# Altium footprint library TMDX654GPEVM_BRD.PcbLib: 153 footprints (part 8 of 12)
Each footprint in its own frame and in the unit in brackets; x right, y up, seen from the top. Pads: shape width x height; smd on the part's side, far side on the other; paste and mask are expansions set on the pad; w line width, h text height; cw(c..) or ccw(c..) is an arc to the next point about the centre after c.
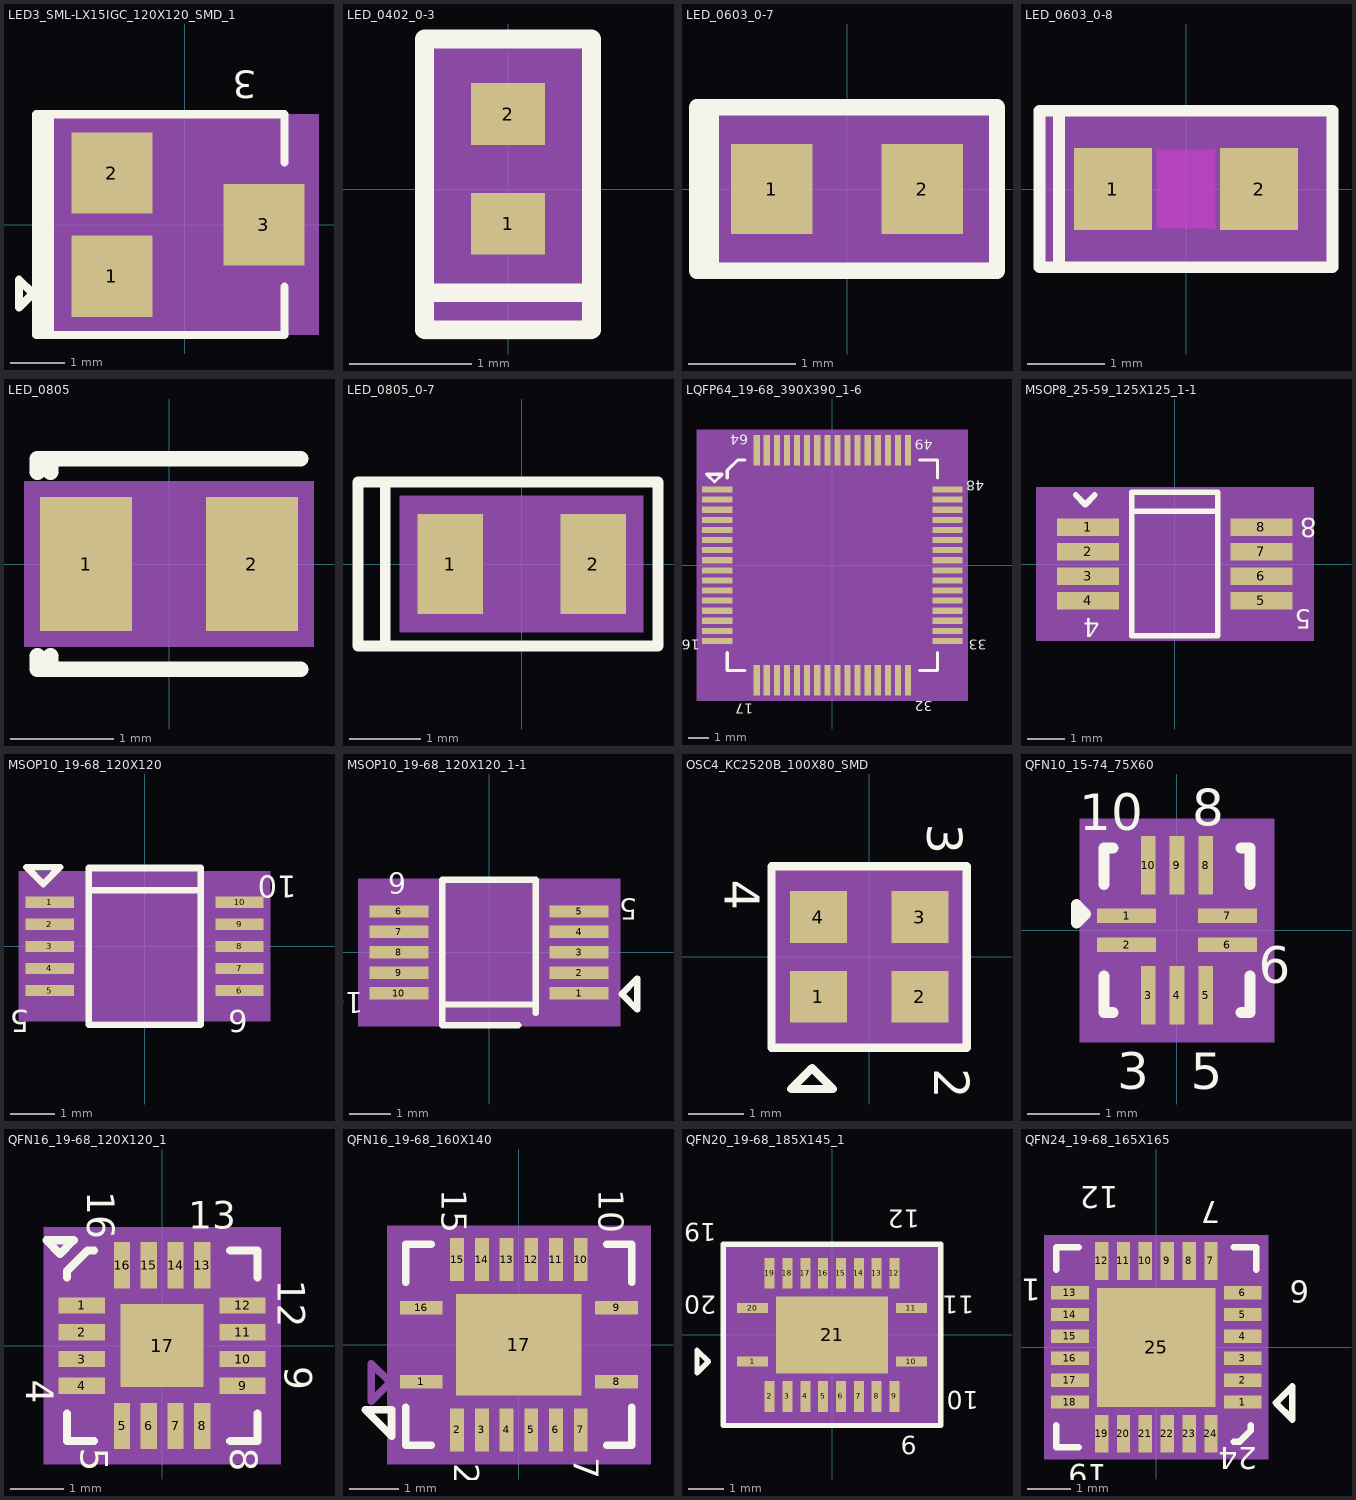
[diagram p7: the footprints below, top view; thin cyan lines are the x and y axes]

## LED3_SML-LX15IGC_120X120_SMD_1 [mil] "LED3_SML-LX15IGC_120X120_SMD_1"
pads (3):
  rect 59x59 smd: 1(-52.62,-37.4) 2(-52.62,37.4) 3(57.62,0)
Top Overlay:
  lines w6: 72.5,-45 72.5,-80 -102.5,-80 -102.5,80 -97.5,80 -97.5,-80 -107.5,-80 -107.5,80 72.5,80 72.5,45 ; -120,-60 -120,-40 -110,-50 -120,-60
  text ".Designator" at 110,46 h30
  text "3" at 52.5,111.67 h20
Top Courtyard:
  dashed: -89.12,-73.9 -89.12,73.9 94.12,73.9 94.12,-73.9
Top 3D Body:
  region: -97.5,80 -97.5,-80 97.5,-80 97.5,80
Mechanical 10:
  lines w6: -57.5,60 62.5,60 62.5,-60 -57.5,-60 -57.5,60 ; -57.5,60 -42.5,60 ; -57.5,60 -52.5,60 -52.5,-60 -47.5,-60 -47.5,60 -42.5,60 ; -42.5,60 -42.5,-60 -42.5,60 ; -72.5,-45 -72.5,-25 -62.5,-35 -72.5,-45
  text "LD18" at -8.92,47 h30
Mechanical 11:
  lines w6: -57.5,60 62.5,60 62.5,-60 -57.5,-60 -57.5,60 ; -57.5,60 -42.5,60 ; -57.5,60 -52.5,60 -52.5,-60 -47.5,-60 -47.5,60 -42.5,60 ; -42.5,60 -42.5,-60 -42.5,60 ; -72.5,-45 -72.5,-25 -62.5,-35 -72.5,-45
  text "LD18" at -8.92,47 h30
Mechanical 12:
  lines w6: -57.5,60 62.5,60 62.5,-60 -57.5,-60 -57.5,60 ; -57.5,60 -42.5,60 ; -57.5,60 -52.5,60 -52.5,-60 -47.5,-60 -47.5,60 -42.5,60 ; -42.5,60 -42.5,-60 -42.5,60 ; -72.5,-45 -72.5,-25 -62.5,-35 -72.5,-45
  text "LD18" at -8.92,47 h30
Mechanical 13:
  lines w6: -57.5,60 62.5,60 62.5,-60 -57.5,-60 -57.5,60 ; -57.5,60 -42.5,60 ; -57.5,60 -52.5,60 -52.5,-60 -47.5,-60 -47.5,60 -42.5,60 ; -42.5,60 -42.5,-60 -42.5,60 ; -72.5,-45 -72.5,-25 -62.5,-35 -72.5,-45
  text "LD18" at -8.92,47 h30
Mechanical 14:
  lines w6: -57.5,60 62.5,60 62.5,-60 -57.5,-60 -57.5,60 ; -57.5,60 -42.5,60 ; -57.5,60 -52.5,60 -52.5,-60 -47.5,-60 -47.5,60 -42.5,60 ; -42.5,60 -42.5,-60 -42.5,60 ; -72.5,-45 -72.5,-25 -62.5,-35 -72.5,-45
  text "LD18" at -8.92,47 h30
Mechanical47:
  text "3" at 61.62,0 h10
  text "1" at -48.62,-37.4 h10
  text "2" at -48.62,37.4 h10
Top Assembly:
  lines w6: -57.5,60 -52.5,60 -52.5,-60 -47.5,-60 -47.5,60 -42.5,60 ; -57.5,60 -57.5,-60 62.5,-60 62.5,60 -57.5,60 ; -57.5,60 -42.5,60 ; -42.5,60 -42.5,-60 -42.5,60 ; -72.5,-45 -72.5,-25 -62.5,-35 -72.5,-45
3D body: height 150, standoff 0, extent -97.5,-80 97.5,80

## LED_0402_0-3 [mil] "LED_0402_0-3"
pads (2):
  rect 24x20 smd: 1(0,-11.22) 2(0,24.22)
Top Overlay:
  lines w6: -25,-33.5 25,-33.5 ; -27,-45.5 27,-45.5 27,48.5 -27,48.5 -27,-45.5
  text ".Designator" at 36,-46.81 h30
Top Courtyard:
  dashed: 19.5,-28.22 -19.5,-28.22 -19.5,41.22 19.5,41.22
Top 3D Body:
  region: -27,-48.5 27,-48.5 27,48.5 -27,48.5
Mechanical 10:
  lines w6: -10,-3.5 10,-3.5 ; -12.5,-13.5 12.5,-13.5 12.5,26.5 -12.5,26.5 -12.5,-13.5
  text "LD7" at 25,42.19 h30
Mechanical 11:
  lines w6: -10,-3.5 10,-3.5 ; -12.5,-13.5 12.5,-13.5 12.5,26.5 -12.5,26.5 -12.5,-13.5
  text "LD7" at 25,42.19 h30
Mechanical 12:
  lines w6: -10,-3.5 10,-3.5 ; -12.5,-13.5 12.5,-13.5 12.5,26.5 -12.5,26.5 -12.5,-13.5
  text "LD7" at 25,42.19 h30
Mechanical 13:
  lines w6: -10,-3.5 10,-3.5 ; -12.5,-13.5 12.5,-13.5 12.5,26.5 -12.5,26.5 -12.5,-13.5
  text "LD7" at 25,42.19 h30
Mechanical 14:
  lines w6: -10,-3.5 10,-3.5 ; -12.5,-13.5 12.5,-13.5 12.5,26.5 -12.5,26.5 -12.5,-13.5
  text "LD7" at 25,42.19 h30
Mechanical47:
  text "2" at 0,28.22 h10
  text "1" at 0,-7.22 h10
Top Assembly:
  lines w6: -10,-3.5 10,-3.5 ; -12.5,-13.5 12.5,-13.5 12.5,26.5 -12.5,26.5 -12.5,-13.5
3D body: height 150, standoff 0, extent -27,-48.5 27,48.5

## LED_0603_0-7 [mil] "LED_0603_0-7"
pads (2):
  rect 30x33 smd: 1(-27.56,0) 2(27.56,0)
Top Overlay:
  lines w6: -50,30 -50,-30 -50,30 ; -50,30 55,30 55,-30 -55,-30 -55,30 -50,30
  text ".Designator" at -173.5,-10 h30
Top Courtyard:
  dashed: -48.56,-22.5 -48.56,22.5 48.56,22.5 48.56,-22.5
Top 3D Body:
  region: -55,30 -55,-30 55,-30 55,30
Mechanical 10:
  lines w6: -25,-15 -30,-15 -30,15 30,15 30,-15 -25,-15 ; -25,-15 -25,15 -20,15 -20,-15 -25,-15
  text "LD19" at -138.5,-15 h30
Mechanical 11:
  lines w6: -25,-15 -30,-15 -30,15 30,15 30,-15 -25,-15 ; -25,-15 -25,15 -20,15 -20,-15 -25,-15
  text "LD19" at -138.5,-15 h30
Mechanical 12:
  lines w6: -25,-15 -30,-15 -30,15 30,15 30,-15 -25,-15 ; -25,-15 -25,15 -20,15 -20,-15 -25,-15
  text "LD19" at -138.5,-15 h30
Mechanical 13:
  lines w6: -25,-15 -30,-15 -30,15 30,15 30,-15 -25,-15 ; -25,-15 -25,15 -20,15 -20,-15 -25,-15
  text "LD19" at -138.5,-15 h30
Mechanical 14:
  lines w6: -25,-15 -30,-15 -30,15 30,15 30,-15 -25,-15 ; -25,-15 -25,15 -20,15 -20,-15 -25,-15
  text "LD19" at -138.5,-15 h30
Mechanical47:
  text "2" at 23.56,0 h10
  text "1" at -31.56,0 h10
Top Assembly:
  lines w6: -25,-15 -30,-15 -30,15 30,15 30,-15 -25,-15 ; -25,-15 -25,15 -20,15 -20,-15 -25,-15
3D body: height 150, standoff 0, extent -55,-30 55,30

## LED_0603_0-8 [mil] "LED_0603_0-8"
pads (2):
  rect 40x42 smd: 1(-37.4,0) 2(37.4,0)
Top Layer keep-out:
  region: -15,20 -15,-20 15,-20 15,20
Top Overlay:
  lines w6: -65,-40 -65,40 ; -75,-40 75,-40 75,40 -75,40 -75,-40
  text ".Designator" at -180.84,-7.5 h30
Top Courtyard:
  dashed: -64.4,-28 -64.4,28 64.4,28 64.4,-28
Top 3D Body:
  region: -76.8,-41.3 -76.8,41.3 76.8,41.3 76.8,-41.3
Mechanical 10:
  lines w6: -27.6,-15.8 -27.6,15.8 ; -23.6,-15.8 -23.6,15.8 ; -19.7,-15.8 -19.7,15.8 ; -15.8,-15.8 -15.8,15.8 ; -11.8,-15.8 -11.8,15.8 ; -7.9,-15.8 -7.9,15.8 ; -3.9,-15.8 -3.9,15.8 ; -31.5,-15.8 -31.5,15.8 31.5,15.8 31.5,-15.8 -31.5,-15.8
  text "LD20" at -146.34,-11 h30
Mechanical 11:
  lines w6: -27.6,-15.8 -27.6,15.8 ; -23.6,-15.8 -23.6,15.8 ; -19.7,-15.8 -19.7,15.8 ; -15.8,-15.8 -15.8,15.8 ; -11.8,-15.8 -11.8,15.8 ; -7.9,-15.8 -7.9,15.8 ; -3.9,-15.8 -3.9,15.8 ; -31.5,-15.8 -31.5,15.8 31.5,15.8 31.5,-15.8 -31.5,-15.8
  text "LD20" at -146.34,-11 h30
Mechanical 12:
  lines w6: -27.6,-15.8 -27.6,15.8 ; -23.6,-15.8 -23.6,15.8 ; -19.7,-15.8 -19.7,15.8 ; -15.8,-15.8 -15.8,15.8 ; -11.8,-15.8 -11.8,15.8 ; -7.9,-15.8 -7.9,15.8 ; -3.9,-15.8 -3.9,15.8 ; -31.5,-15.8 -31.5,15.8 31.5,15.8 31.5,-15.8 -31.5,-15.8
  text "LD20" at -146.34,-11 h30
Mechanical 13:
  lines w6: -27.6,-15.8 -27.6,15.8 ; -23.6,-15.8 -23.6,15.8 ; -19.7,-15.8 -19.7,15.8 ; -15.8,-15.8 -15.8,15.8 ; -11.8,-15.8 -11.8,15.8 ; -7.9,-15.8 -7.9,15.8 ; -3.9,-15.8 -3.9,15.8 ; -31.5,-15.8 -31.5,15.8 31.5,15.8 31.5,-15.8 -31.5,-15.8
  text "LD20" at -146.34,-11 h30
Mechanical 14:
  lines w6: -27.6,-15.8 -27.6,15.8 ; -23.6,-15.8 -23.6,15.8 ; -19.7,-15.8 -19.7,15.8 ; -15.8,-15.8 -15.8,15.8 ; -11.8,-15.8 -11.8,15.8 ; -7.9,-15.8 -7.9,15.8 ; -3.9,-15.8 -3.9,15.8 ; -31.5,-15.8 -31.5,15.8 31.5,15.8 31.5,-15.8 -31.5,-15.8
  text "LD20" at -146.34,-11 h30
Mechanical47:
  text "2" at 33.4,-3.33 h10
  text "1" at -41.4,-3.33 h10
Top Assembly:
  lines w6: -27.6,-15.8 -27.6,15.8 ; -23.6,-15.8 -23.6,15.8 ; -19.7,-15.8 -19.7,15.8 ; -15.8,-15.8 -15.8,15.8 ; -11.8,-15.8 -11.8,15.8 ; -7.9,-15.8 -7.9,15.8 ; -3.9,-15.8 -3.9,15.8 ; -31.5,-15.8 -31.5,15.8 31.5,15.8 31.5,-15.8 -31.5,-15.8
Top Component Outline:
  circle w2: c0,0 r13.8
  lines w2: -19.7,0 19.7,0 ; 0,-19.7 0,19.7
  lines w7.9: 0,-11.8 0,11.8
3D body: height 150, standoff 0, extent -76.8,-41.3 76.8,41.3

## LED_0805 [mil] "LED_0805"
pads (2):
  rect 35x51 smd: 1(-31.5,0) 2(31.5,0)
Top Overlay:
  lines w6: -50,-35 -50,-40 50,-40 ; -50,35 -50,40 50,40 ; -45,-40 -45,-35 ; -45,35 -45,40
  text ".Designator" at -67.91,12.5 h30
Top Courtyard:
  dashed: -55,-31.5 -55,31.5 55,31.5 55,-31.5
Top 3D Body:
  region: -53,-29.5 53,-29.5 53,29.5 -53,29.5
Mechanical 10:
  lines w6: -35,25 40,25 40,-25 -40,-25 -40,25 -35,25 ; -35,25 -35,-25 -35,25
  text "LD1" at 32.09,67.5 h30
Mechanical 11:
  lines w6: -35,25 40,25 40,-25 -40,-25 -40,25 -35,25 ; -35,25 -35,-25 -35,25
  text "LD1" at 32.09,67.5 h30
Mechanical 12:
  lines w6: -35,25 40,25 40,-25 -40,-25 -40,25 -35,25 ; -35,25 -35,-25 -35,25
  text "LD1" at 32.09,67.5 h30
Mechanical 13:
  lines w6: -35,25 40,25 40,-25 -40,-25 -40,25 -35,25 ; -35,25 -35,-25 -35,25
  text "LD1" at 32.09,67.5 h30
Mechanical 14:
  lines w6: -35,25 40,25 40,-25 -40,-25 -40,25 -35,25 ; -35,25 -35,-25 -35,25
  text "LD1" at 32.09,67.5 h30
Mechanical47:
  text "1" at -31.5,-4 h10
  text "2" at 31.5,-4 h10
Top Assembly:
  lines w6: -35,25 -35,-25 -35,25 ; -35,25 -40,25 -40,-25 40,-25 40,25 -35,25
3D body: height 150, standoff 0, extent -53,-29.5 53,29.5

## LED_0805_0-7 [mil] "LED_0805_0-7"
pads (2):
  rect 36x55 smd: 1(-39.37,0) 2(39.37,0)
Top Overlay:
  lines w6: -75,-45 -75,45 ; -40,-45 40,-45 ; -40,45 40,45 ; -75,45 75,45 75,-45 -90,-45 -90,45 -75,45
Top Courtyard:
  dashed: -64.37,-34.5 -64.37,34.5 64.37,34.5 64.37,-34.5
Top 3D Body:
  region: -67,-37.5 -67,37.5 67,37.5 67,-37.5
Mechanical 10:
  lines w6: -30,-25 -30,25 ; -40,-25 40,-25 40,25 -40,25 -40,-25
  text "LD12" at -42,-65 h30
Mechanical 11:
  lines w6: -30,-25 -30,25 ; -40,-25 40,-25 40,25 -40,25 -40,-25
  text "LD12" at -42,-65 h30
Mechanical 12:
  lines w6: -30,-25 -30,25 ; -40,-25 40,-25 40,25 -40,25 -40,-25
  text "LD12" at -42,-65 h30
Mechanical 13:
  lines w6: -30,-25 -30,25 ; -40,-25 40,-25 40,25 -40,25 -40,-25
  text "LD12" at -42,-65 h30
Mechanical 14:
  lines w6: -30,-25 -30,25 ; -40,-25 40,-25 40,25 -40,25 -40,-25
  text "LD12" at -42,-65 h30
Mechanical47:
  text "2" at 39.37,4 h10
  text "1" at -39.37,4 h10
Top Assembly:
  lines w6: -30,-25 -30,25 ; -40,-25 40,-25 40,25 -40,25 -40,-25
  text ".Designator" at -42,-65 h30
3D body: height 150, standoff 0, extent -67,-37.5 67,37.5

## LQFP64_19-68_390X390_1-6 [mil] "LQFP64_19-68_390X390_1-6"
pads (64):
  rect 59x12 smd: 1(-224.41,147.64) 2(-224.41,127.95) 3(-224.41,108.27) 4(-224.41,88.58) 5(-224.41,68.9) 6(-224.41,49.21) 7(-224.41,29.53) 8(-224.41,9.84) 9(-224.41,-9.84) 10(-224.41,-29.53) 11(-224.41,-49.21) 12(-224.41,-68.9) 13(-224.41,-88.58) 14(-224.41,-108.27) 15(-224.41,-127.95) 16(-224.41,-147.64) 33(224.41,-147.64) 34(224.41,-127.95) 35(224.41,-108.27) 36(224.41,-88.58) 37(224.41,-68.9) 38(224.41,-49.21) 39(224.41,-29.53) 40(224.41,-9.84) 41(224.41,9.84) 42(224.41,29.53) 43(224.41,49.21) 44(224.41,68.9) 45(224.41,88.58) 46(224.41,108.27) 47(224.41,127.95) 48(224.41,147.64)
  rect 12x59 smd: 17(-147.64,-224.41) 18(-127.95,-224.41) 19(-108.27,-224.41) 20(-88.58,-224.41) 21(-68.9,-224.41) 22(-49.21,-224.41) 23(-29.53,-224.41) 24(-9.84,-224.41) 25(9.84,-224.41) 26(29.53,-224.41) 27(49.21,-224.41) 28(68.9,-224.41) 29(88.58,-224.41) 30(108.27,-224.41) 31(127.95,-224.41) 32(147.64,-224.41) 49(147.64,224.41) 50(127.95,224.41) 51(108.27,224.41) 52(88.58,224.41) 53(68.9,224.41) 54(49.21,224.41) 55(29.53,224.41) 56(9.84,224.41) 57(-9.84,224.41) 58(-29.53,224.41) 59(-49.21,224.41) 60(-68.9,224.41) 61(-88.58,224.41) 62(-108.27,224.41) 63(-127.95,224.41) 64(-147.64,224.41)
Top Overlay:
  lines w6: -205,-170 -205,-205 -170,-205 ; -205,170 -205,185 -185,205 -170,205 ; 170,-205 205,-205 205,-170 ; 170,205 205,205 205,170 ; -245,177.5 -215,177.5 -230,162.5 -245,177.5
  text ".Designator" at 49,-290 h30
  text "64" at -164,255 h20
  text "49" at 196,245 h20
  text "48" at 296,165 h20
  text "33" at 301,-145 h20
  text "32" at 196,-265 h20
  text "17" at -154,-270 h20
  text "16" at -259,-145 h20
Top Courtyard:
  dashed: -259.91,-259.91 -259.91,259.91 259.91,259.91 259.91,-259.91
Top 3D Body:
  region: -264,-264 -264,264 264,264 264,-264
Mechanical 15:
  lines w6: -210,135 -210,165 -195,150 -210,135 ; -195,-195 195,-195 195,195 -195,195 -195,-195
  text "U73" at 39,25 h30
Mechanical 16:
  lines w6: -210,135 -210,165 -195,150 -210,135 ; -195,-195 195,-195 195,195 -195,195 -195,-195
  text "U73" at 39,25 h30
Mechanical 17:
  lines w6: -210,135 -210,165 -195,150 -210,135 ; -195,-195 195,-195 195,195 -195,195 -195,-195
  text "U73" at 39,25 h30
Mechanical 18:
  lines w6: -210,135 -210,165 -195,150 -210,135 ; -195,-195 195,-195 195,195 -195,195 -195,-195
  text "U73" at 39,25 h30
Mechanical 19:
  lines w6: -210,135 -210,165 -195,150 -210,135 ; -195,-195 195,-195 195,195 -195,195 -195,-195
  text "U73" at 39,25 h30
Mechanical47:
  text "2" at -228.41,122.95 h10
  text "3" at -228.41,103.27 h10
  text "1" at -228.41,142.64 h10
  text "5" at -228.41,63.9 h10
  text "51" at 96.93,221.08 h10
  text "47" at 216.41,122.95 h10
  text "10" at -232.41,-34.53 h10
  text "11" at -232.41,-54.21 h10
  text "13" at -232.41,-93.58 h10
  text "15" at -232.41,-132.95 h10
  text "25" at -1.49,-227.74 h10
  text "35" at 216.41,-113.27 h10
  text "28" at 57.56,-227.74 h10
  text "26" at 18.19,-227.74 h10
  text "29" at 77.25,-227.74 h10
  text "27" at 37.88,-227.74 h10
  text "40" at 216.41,-14.84 h10
  text "38" at 216.41,-54.21 h10
  text "41" at 216.41,4.84 h10
  text "63" at -139.29,221.08 h10
  text "39" at 216.41,-34.53 h10
  text "62" at -119.6,221.08 h10
  text "4" at -228.41,83.58 h10
  text "20" at -99.92,-227.74 h10
  text "31" at 116.62,-227.74 h10
  text "42" at 216.41,24.53 h10
  text "56" at -1.49,221.08 h10
  text "50" at 116.62,221.08 h10
  text "8" at -228.41,4.84 h10
  text "18" at -139.29,-227.74 h10
  text "53" at 57.56,221.08 h10
  text "16" at -232.41,-152.64 h10
  text "7" at -228.41,24.53 h10
  text "48" at 216.41,142.64 h10
  text "19" at -119.6,-227.74 h10
  text "54" at 37.88,221.08 h10
  text "52" at 77.25,221.08 h10
  text "17" at -158.97,-227.74 h10
  text "61" at -99.92,221.08 h10
  text "60" at -80.23,221.08 h10
  text "12" at -232.41,-73.9 h10
  text "49" at 136.3,221.08 h10
  text "37" at 216.41,-73.9 h10
  text "64" at -158.97,221.08 h10
  text "9" at -228.41,-14.84 h10
  text "6" at -228.41,44.21 h10
  text "14" at -232.41,-113.27 h10
  text "36" at 216.41,-93.58 h10
  text "59" at -60.55,221.08 h10
  text "58" at -40.86,221.08 h10
  text "57" at -21.18,221.08 h10
  text "55" at 18.19,221.08 h10
  text "46" at 216.41,103.27 h10
  text "45" at 216.41,83.58 h10
  text "44" at 216.41,63.9 h10
  text "43" at 216.41,44.21 h10
  text "34" at 216.41,-132.95 h10
  text "33" at 216.41,-152.64 h10
  text "32" at 136.3,-227.74 h10
  text "30" at 96.93,-227.74 h10
  text "24" at -21.18,-227.74 h10
  text "23" at -40.86,-227.74 h10
  text "22" at -60.55,-227.74 h10
  text "21" at -80.23,-227.74 h10
Top Assembly:
  lines w6: -210,135 -210,165 -195,150 -210,135 ; -195,-195 195,-195 195,195 -195,195 -195,-195
3D body: height 150, standoff 0, extent -264,-264 264,264

## MSOP8_25-59_125X125_1-1 [mil] "MSOP8_25-59_125X125_1-1"
pads (8):
  rect 65x18 smd: 1(-90.55,38.39) 2(-90.55,12.8) 3(-90.55,-12.8) 4(-90.55,-38.39) 5(90.55,-38.39) 6(90.55,-12.8) 7(90.55,12.8) 8(90.55,38.39)
Top Overlay:
  lines w6: -103.5,72 -93.5,62 -83.5,72 ; -45,55 45,55 ; -45,-75 45,-75 45,75 -45,75 -45,-75
  text ".Designator" at 31.5,114 h30
  text "4" at -78.5,-56.83 h20
  text "5" at 142.5,-48 h20
  text "8" at 148.5,48 h20
Top Courtyard:
  dashed: -129.05,-72 -129.05,72 129.05,72 129.05,-72
Top 3D Body:
  region: -145,-80 145,-80 145,80 -145,80
Mechanical 15:
  lines w6: -65,45 65,45 ; -80,30 -80,50 -70,40 -80,30 ; -65,-65 65,-65 65,65 -65,65 -65,-65
  text "U79" at -29,5 h30
Mechanical 16:
  lines w6: -65,45 65,45 ; -80,30 -80,50 -70,40 -80,30 ; -65,-65 65,-65 65,65 -65,65 -65,-65
  text "U79" at -29,5 h30
Mechanical 17:
  lines w6: -65,45 65,45 ; -80,30 -80,50 -70,40 -80,30 ; -65,-65 65,-65 65,65 -65,65 -65,-65
  text "U79" at -29,5 h30
Mechanical 18:
  lines w6: -65,45 65,45 ; -80,30 -80,50 -70,40 -80,30 ; -65,-65 65,-65 65,65 -65,65 -65,-65
  text "U79" at -29,5 h30
Mechanical 19:
  lines w6: -65,45 65,45 ; -80,30 -80,50 -70,40 -80,30 ; -65,-65 65,-65 65,65 -65,65 -65,-65
  text "U79" at -29,5 h30
Mechanical47:
  text "5" at 84.22,-41.16 h10
  text "4" at -94.8,-42.06 h10
  text "1" at -94.8,34.71 h10
  text "2" at -94.8,9.12 h10
  text "8" at 84.22,35.61 h10
  text "3" at -94.8,-16.47 h10
  text "7" at 84.22,10.02 h10
  text "6" at 84.22,-15.57 h10
Top Assembly:
  lines w6: -65,45 65,45 ; -80,30 -80,50 -70,40 -80,30 ; -65,-65 65,-65 65,65 -65,65 -65,-65
3D body: height 150, standoff 0, extent -145,-80 145,80

## MSOP10_19-68_120X120 [mil] "MSOP10_19-68_120X120"
pads (10):
  rect 43x10 smd: 1(-84.65,39.37) 2(-84.65,19.68) 3(-84.65,0) 4(-84.65,-19.68) 5(-84.65,-39.37) 6(84.65,-39.37) 7(84.65,-19.68) 8(84.65,0) 9(84.65,19.68) 10(84.65,39.37)
Top Overlay:
  lines w6: -50,50 50,50 ; -105.5,70.65 -90.5,55.65 -75.5,70.65 -100.5,70.65 -105.5,70.65 ; -50,-70 -50,70 50,70 50,-70 -50,-70
  text "5" at -103,-56.85 h20
  text "10" at 135.5,63.15 h20
  text ".Designator" at 23.5,123.15 h30
  text "6" at 92,-56.85 h20
Top Courtyard:
  dashed: -112.15,-67 -112.15,67 112.15,67 112.15,-67
Top 3D Body:
  region: -110,-67 110,-67 110,67 -110,67
Mechanical 15:
  lines w6: -60,40 60,40 ; -77.5,25 -62.5,40 -77.5,55 -77.5,30 -77.5,25 ; -60,-60 60,-60 60,60 -60,60 -60,-60
  text "U66" at 38.5,8.15 h30
Mechanical 16:
  lines w6: -60,40 60,40 ; -77.5,25 -62.5,40 -77.5,55 -77.5,30 -77.5,25 ; -60,-60 60,-60 60,60 -60,60 -60,-60
  text "U66" at 38.5,8.15 h30
Mechanical 17:
  lines w6: -60,40 60,40 ; -77.5,25 -62.5,40 -77.5,55 -77.5,30 -77.5,25 ; -60,-60 60,-60 60,60 -60,60 -60,-60
  text "U66" at 38.5,8.15 h30
Mechanical 18:
  lines w6: -60,40 60,40 ; -77.5,25 -62.5,40 -77.5,55 -77.5,30 -77.5,25 ; -60,-60 60,-60 60,60 -60,60 -60,-60
  text "U66" at 38.5,8.15 h30
Mechanical 19:
  lines w6: -60,40 60,40 ; -77.5,25 -62.5,40 -77.5,55 -77.5,30 -77.5,25 ; -60,-60 60,-60 60,60 -60,60 -60,-60
  text "U66" at 38.5,8.15 h30
Mechanical47:
  text "5" at -88.65,-44.37 h10
  text "6" at 80.65,-44.37 h10
  text "10" at 76.65,34.37 h10
  text "3" at -88.65,-5 h10
  text "9" at 80.65,14.69 h10
  text "7" at 80.65,-24.68 h10
  text "2" at -88.65,14.69 h10
  text "1" at -88.65,34.37 h10
  text "8" at 80.65,-5 h10
  text "4" at -88.65,-24.68 h10
Top Assembly:
  lines w6: -60,40 60,40 ; -77.5,25 -62.5,40 -77.5,55 -77.5,30 -77.5,25 ; -60,-60 60,-60 60,60 -60,60 -60,-60
3D body: height 150, standoff 0, extent -110,-67 110,67

## MSOP10_19-68_120X120_1-1 [mil] "MSOP10_19-68_120X120_1-1"
pads (10):
  rect 57x12 smd: 1(86.61,-39.37) 2(86.61,-19.68) 3(86.61,0) 4(86.61,19.68) 5(86.61,39.37) 6(-86.61,39.37) 7(-86.61,19.68) 8(-86.61,0) 9(-86.61,-19.68) 10(-86.61,-39.37)
Top Overlay:
  lines w6: -45,-50 45,-50 ; 28.13,-70 -45,-70 -45,70 45,70 45,-58.17 ; 127.5,-40 142.5,-25 142.5,-55 127.5,-40
  text "6" at -79.37,76.83 h20
  text "10" at -120.87,-38.17 h20
  text "5" at 142.5,51.67 h20
Top Courtyard:
  dashed: 121.11,67 121.11,-67 -121.11,-67 -121.11,67
Top 3D Body:
  region: 126,71 126,-71 -126,-71 -126,71
Mechanical 15:
  lines w6: -60,-40 60,-40 ; -60,-60 -60,60 60,60 60,-60 -60,-60 ; 62.5,-40 77.5,-25 77.5,-55 62.5,-40
  text "U69" at 27.13,31.83 h30
Mechanical 16:
  lines w6: -60,-40 60,-40 ; -60,-60 -60,60 60,60 60,-60 -60,-60 ; 62.5,-40 77.5,-25 77.5,-55 62.5,-40
  text "U69" at 27.13,31.83 h30
Mechanical 17:
  lines w6: -60,-40 60,-40 ; -60,-60 -60,60 60,60 60,-60 -60,-60 ; 62.5,-40 77.5,-25 77.5,-55 62.5,-40
  text "U69" at 27.13,31.83 h30
Mechanical 18:
  lines w6: -60,-40 60,-40 ; -60,-60 -60,60 60,60 60,-60 -60,-60 ; 62.5,-40 77.5,-25 77.5,-55 62.5,-40
  text "U69" at 27.13,31.83 h30
Mechanical 19:
  lines w6: -60,-40 60,-40 ; -60,-60 -60,60 60,60 60,-60 -60,-60 ; 62.5,-40 77.5,-25 77.5,-55 62.5,-40
  text "U69" at 27.13,31.83 h30
Mechanical47:
  text "10" at -94.61,-34.37 h10
  text "6" at -90.61,44.37 h10
  text "1" at 82.61,-34.37 h10
  text "3" at 82.61,5 h10
  text "8" at -90.61,5 h10
  text "9" at -90.61,-14.69 h10
  text "4" at 82.61,24.68 h10
  text "7" at -90.61,24.68 h10
  text "2" at 82.61,-14.69 h10
  text "5" at 82.61,44.37 h10
Top Assembly:
  lines w6: -60,-40 60,-40 ; -60,-60 -60,60 60,60 60,-60 -60,-60 ; 62.5,-40 77.5,-25 77.5,-55 62.5,-40
  text ".Designator" at 27.13,31.83 h30
3D body: height 150, standoff 0, extent -126,-71 126,71

## OSC4_KC2520B_100X80_SMD [mil] "OSC4_KC2520B_100X80_SMD"
pads (4):
  rect 41x37 smd: 1(-36.44,-28.54) 2(36.4,-28.54) 3(36.4,28.54) 4(-36.44,28.54)
Top Overlay:
  lines w6: -70.02,-65 69.98,-65 69.98,65 -70.02,65 -70.02,-65 ; -55.92,-94.68 -25.92,-94.68 -40.92,-79.68 -55.92,-94.68
  text ".Designator" at -0.92,-81.18 h30
  text "2" at 46.58,-79.68 h25
  text "3" at 41.58,95.32 h25
  text "4" at -103.42,55.32 h25
Top Courtyard:
  dashed: -63.94,-54.04 -63.94,54.04 63.9,54.04 63.9,-54.04
Top 3D Body:
  region: -70,65 70,65 70,-65 -70,-65
Mechanical47:
  text "2" at 36.4,-32.54 h10
  text "4" at -36.44,24.54 h10
  text "1" at -36.44,-32.54 h10
  text "3" at 36.4,24.54 h10
Top Assembly:
  lines w6: -65.02,-40 -65.02,-10 -50.02,-25 -65.02,-40 ; -50.02,-40 49.98,-40 49.98,40 -50.02,40 -50.02,-40
3D body: height 150, standoff 0, extent -70,-65 70,65

## QFN10_15-74_75X60 [mil] "QFN10_15-74_75X60"
pads (10):
  rect 32x8 smd: 1(-27.56,7.87) 2(-27.56,-7.87) 6(27.56,-7.87) 7(27.56,7.87)
  rect 8x32 smd: 3(-15.75,-35.43) 4(0,-35.43) 5(15.75,-35.43) 8(15.75,35.43) 9(0,35.43) 10(-15.75,35.43)
Top Overlay:
  lines w6: -40,-25 -40,-45 -35,-45 ; -40,25 -40,45 -35,45 ; 35,-45 40,-45 40,-25 ; 35,45 40,45 40,25 ; -54.86,3.97 -54.86,13.97 -49.86,8.97 -54.86,3.97
  text ".Designator" at -129,25 h30
  text "3" at -32.5,-86.67 h20
  text "5" at 7.5,-86.67 h20
  text "6" at 44.7,-28.9 h20
  text "8" at 8.28,57.18 h20
  text "10" at -53.46,54.7 h20
Top Courtyard:
  dashed: -49.56,-57.43 -49.56,57.43 49.56,57.43 49.56,-57.43
Top 3D Body:
  region: -53,-61 -53,61 53,61 53,-61
Mechanical 10:
  lines w6: -40,5 -40,15 -35,10 -40,5 ; -30,-35 30,-35 30,35 -30,35 -30,-35
  text "U29" at -109,20 h30
Mechanical 11:
  lines w6: -40,5 -40,15 -35,10 -40,5 ; -30,-35 30,-35 30,35 -30,35 -30,-35
  text "U29" at -109,20 h30
Mechanical 12:
  lines w6: -40,5 -40,15 -35,10 -40,5 ; -30,-35 30,-35 30,35 -30,35 -30,-35
  text "U29" at -109,20 h30
Mechanical 13:
  lines w6: -40,5 -40,15 -35,10 -40,5 ; -30,-35 30,-35 30,35 -30,35 -30,-35
  text "U29" at -109,20 h30
Mechanical 14:
  lines w6: -40,5 -40,15 -35,10 -40,5 ; -30,-35 30,-35 30,35 -30,35 -30,-35
  text "U29" at -109,20 h30
Mechanical47:
  text "6" at 23.56,-11.21 h10
  text "8" at 11.75,32.1 h10
  text "5" at 11.75,-38.77 h10
  text "3" at -19.75,-38.77 h10
  text "7" at 23.56,4.54 h10
  text "1" at -31.56,7.87 h10
  text "10" at -23.75,32.1 h10
  text "2" at -31.56,-7.87 h10
  text "4" at -4,-38.77 h10
  text "9" at -4,32.1 h10
Top Assembly:
  lines w6: -40,5 -40,15 -35,10 -40,5 ; -30,-35 30,-35 30,35 -30,35 -30,-35
3D body: height 150, standoff 0, extent -53,-61 53,61

## QFN16_19-68_120X120_1 [mil] "QFN16_19-68_120X120_1"
pads (17):
  rect 34x12 smd: 1(-59.05,29.53) 2(-59.05,9.84) 3(-59.05,-9.84) 4(-59.05,-29.53) 9(59.05,-29.53) 10(59.05,-9.84) 11(59.05,9.84) 12(59.05,29.53)
  rect 12x34 smd: 5(-29.53,-59.05) 6(-9.84,-59.05) 7(9.84,-59.05) 8(29.53,-59.05) 13(29.53,59.05) 14(9.84,59.05) 15(-9.84,59.05) 16(-29.53,59.05)
  rect 61x61 smd: 17(0,0)
Top Overlay:
  lines w6: -70,-50 -70,-70 -50,-70 ; -70,50 -70,55 -55,70 -50,70 ; 50,-70 70,-70 70,-50 ; 50,70 70,70 70,50 ; -84.98,77.5 -64.98,77.5 -74.98,67.5 -84.98,77.5
  text ".Designator" at -79.98,181.5 h30
  text "16" at -54.98,113.5 h20
  text "12" at 85.02,48.5 h20
  text "8" at 50.02,-75 h20
  text "5" at -59.98,-75 h20
  text "4" at -99.98,-25 h20
  text "13" at 19.02,85.83 h20
  text "9" at 90.02,-15 h20
Top Courtyard:
  dashed: -82.06,-82.06 -82.06,82.06 82.06,82.06 82.06,-82.06
Top 3D Body:
  region: -87,-87 87,-87 87,87 -87,87
Mechanical 15:
  lines w6: -70,20 -70,40 -60,30 -70,20 ; -60,-60 60,-60 60,60 -60,60 -60,-60
  text "U64" at -9.98,-38.5 h30
Mechanical 16:
  lines w6: -70,20 -70,40 -60,30 -70,20 ; -60,-60 60,-60 60,60 -60,60 -60,-60
  text "U64" at -9.98,-38.5 h30
Mechanical 17:
  lines w6: -70,20 -70,40 -60,30 -70,20 ; -60,-60 60,-60 60,60 -60,60 -60,-60
  text "U64" at -9.98,-38.5 h30
Mechanical 18:
  lines w6: -70,20 -70,40 -60,30 -70,20 ; -60,-60 60,-60 60,60 -60,60 -60,-60
  text "U64" at -9.98,-38.5 h30
Mechanical 19:
  lines w6: -70,20 -70,40 -60,30 -70,20 ; -60,-60 60,-60 60,60 -60,60 -60,-60
  text "U64" at -9.98,-38.5 h30
Mechanical47:
  text "9" at 59.05,-33.53 h10
  text "3" at -59.05,-13.84 h10
  text "10" at 59.05,-17.84 h10
  text "13" at 29.53,51.05 h10
  text "12" at 59.05,21.53 h10
  text "11" at 59.05,1.84 h10
  text "15" at -9.84,51.05 h10
  text "14" at 9.84,51.05 h10
  text "6" at -9.84,-63.05 h10
  text "17" at 0,-8 h10
  text "5" at -29.53,-63.05 h10
  text "2" at -59.05,5.84 h10
  text "1" at -59.05,25.53 h10
  text "4" at -59.05,-33.53 h10
  text "8" at 29.53,-63.05 h10
  text "7" at 9.84,-63.05 h10
  text "16" at -29.53,51.05 h10
Top Assembly:
  lines w6: -70,20 -70,40 -60,30 -70,20 ; -60,-60 60,-60 60,60 -60,60 -60,-60
3D body: height 150, standoff 0, extent -87,-87 87,87

## QFN16_19-68_160X140 [mil] "QFN16_19-68_160X140"
pads (17):
  rect 34x11 smd: 1(-77.76,-29.53) 8(77.76,-29.53) 9(77.76,29.53) 16(-77.76,29.53)
  rect 11x34 smd: 2(-49.21,-67.91) 3(-29.53,-67.91) 4(-9.84,-67.91) 5(9.84,-67.91) 6(29.53,-67.91) 7(49.21,-67.91) 10(49.21,67.91) 11(29.53,67.91) 12(9.84,67.91) 13(-9.84,67.91) 14(-29.53,67.91) 15(-49.21,67.91)
  rect 100x81 smd: 17(0,0)
Top Overlay:
  lines w6: -90,-50 -90,-80 -70,-80 ; -90,50 -90,80 -70,80 ; 70,-80 90,-80 90,-50 ; 70,80 90,80 90,50 ; -122.41,-51.7 -101.2,-72.91 -101.2,-51.7 -122.41,-51.7
  text "7" at 43.5,-89.5 h20
  text "2" at -51.5,-94.5 h20
  text "10" at 63.5,124 h20
  text "15" at -61.5,124 h20
Top Paste:
  dashed: -48.03,5.91 -48.03,38.19 -5.91,38.19 -5.91,5.91
  dashed: 5.91,5.91 5.91,38.19 48.03,38.19 48.03,5.91
  dashed: 5.91,-38.19 5.91,-5.91 48.03,-5.91 48.03,-38.19
  dashed: -48.03,-38.19 -48.03,-5.91 -5.91,-5.91 -5.91,-38.19
Top Courtyard:
  dashed: -100.76,-90.91 -100.76,90.91 100.76,90.91 100.76,-90.91
Top 3D Body:
  region: 105,95 105,-95 -105,-95 -105,95
Mechanical 10:
  lines w6: -117.5,-45 -117.5,-15 -102.5,-30 -117.5,-45 ; -80,-70 80,-70 80,70 -80,70 -80,-70
  text "U43" at -16.5,42 h30
Mechanical 11:
  lines w6: -117.5,-45 -117.5,-15 -102.5,-30 -117.5,-45 ; -80,-70 80,-70 80,70 -80,70 -80,-70
  text "U43" at -16.5,42 h30
Mechanical 12:
  lines w6: -117.5,-45 -117.5,-15 -102.5,-30 -117.5,-45 ; -80,-70 80,-70 80,70 -80,70 -80,-70
  text "U43" at -16.5,42 h30
Mechanical 13:
  lines w6: -117.5,-45 -117.5,-15 -102.5,-30 -117.5,-45 ; -80,-70 80,-70 80,70 -80,70 -80,-70
  text "U43" at -16.5,42 h30
Mechanical 14:
  lines w6: -117.5,-45 -117.5,-15 -102.5,-30 -117.5,-45 ; -80,-70 80,-70 80,70 -80,70 -80,-70
  text "U43" at -16.5,42 h30
Mechanical47:
  text "1" at -77.76,-25.53 h10
  text "16" at -77.76,37.53 h10
  text "6" at 29.53,-63.91 h10
  text "7" at 49.21,-63.91 h10
  text "8" at 77.76,-25.53 h10
  text "9" at 77.76,33.53 h10
  text "17" at 0,8 h10
  text "11" at 29.53,75.91 h10
  text "12" at 9.84,75.91 h10
  text "10" at 49.21,75.91 h10
  text "14" at -29.53,75.91 h10
  text "15" at -49.21,75.91 h10
  text "13" at -9.84,75.91 h10
  text "5" at 9.84,-63.91 h10
  text "3" at -29.53,-63.91 h10
  text "2" at -49.21,-63.91 h10
  text "4" at -9.84,-63.91 h10
Top Assembly:
  lines w6: -117.5,-45 -117.5,-15 -102.5,-30 -117.5,-45 ; -80,-70 80,-70 80,70 -80,70 -80,-70
  text ".Designator" at -16.5,42 h30
3D body: height 150, standoff 0, extent -105,-95 105,95

## QFN20_19-68_185X145_1 [mil] "QFN20_19-68_185X145_1"
pads (21):
  rect 34x11 smd: 1(-87.6,-29.53) 10(87.6,-29.53) 11(87.6,29.53) 20(-87.6,29.53)
  rect 11x34 smd: 2(-68.9,-67.91) 3(-49.21,-67.91) 4(-29.53,-67.91) 5(-9.84,-67.91) 6(9.84,-67.91) 7(29.53,-67.91) 8(49.21,-67.91) 9(68.9,-67.91) 12(68.9,67.91) 13(49.21,67.91) 14(29.53,67.91) 15(9.84,67.91) 16(-9.84,67.91) 17(-29.53,67.91) 18(-49.21,67.91) 19(-68.9,67.91)
  rect 124x85 smd: 21(0,0)
Top Overlay:
  lines w6: -149,-42 -149,-17 -136.5,-29.5 -149,-42 ; -120,-100 -120,100 120,100 120,-100 -120,-100
  text ".Designator" at -173,3 h30
  text "9" at 93.5,-112 h20
  text "10" at 162,-62 h20
  text "12" at 97,138 h20
  text "19" at -128,123 h20
  text "20" at -128,43 h20
  text "11" at 157,43 h20
Top Paste:
  dashed: -57.87,-38.19 -5.91,-38.19 -5.91,-5.91 -57.87,-5.91
  dashed: -57.87,5.91 -5.91,5.91 -5.91,38.19 -57.87,38.19
  dashed: 5.91,5.91 57.87,5.91 57.87,38.19 5.91,38.19
  dashed: 5.91,-38.19 57.87,-38.19 57.87,-5.91 5.91,-5.91
Top Courtyard:
  dashed: -110.6,-90.91 -110.6,90.91 110.6,90.91 110.6,-90.91
Top 3D Body:
  region: -120,-100 -120,100 120,100 120,-100
Mechanical 15:
  lines w6: -110,-45 -110,-10 -92.5,-27.5 -110,-45 ; -90,-70 90,-70 90,70 -90,70 -90,-70
  text "U100" at -52,18 h30
Mechanical 16:
  lines w6: -110,-45 -110,-10 -92.5,-27.5 -110,-45 ; -90,-70 90,-70 90,70 -90,70 -90,-70
  text "U100" at -52,18 h30
Mechanical 17:
  lines w6: -110,-45 -110,-10 -92.5,-27.5 -110,-45 ; -90,-70 90,-70 90,70 -90,70 -90,-70
  text "U100" at -52,18 h30
Mechanical 18:
  lines w6: -110,-45 -110,-10 -92.5,-27.5 -110,-45 ; -90,-70 90,-70 90,70 -90,70 -90,-70
  text "U100" at -52,18 h30
Mechanical 19:
  lines w6: -110,-45 -110,-10 -92.5,-27.5 -110,-45 ; -90,-70 90,-70 90,70 -90,70 -90,-70
  text "U100" at -52,18 h30
Mechanical47:
  text "19" at -76.9,67.91 h10
  text "20" at -95.6,29.53 h10
  text "18" at -57.21,67.91 h10
  text "16" at -18,66.67 h10
  text "15" at 1.84,67.91 h10
  text "14" at 21.53,67.91 h10
  text "13" at 41.21,67.91 h10
  text "12" at 60.9,67.91 h10
  text "1" at -91.6,-29.53 h10
  text "4" at -33.53,-67.91 h10
  text "3" at -53.21,-67.91 h10
  text "11" at 79.6,29.53 h10
  text "21" at -8,0 h10
  text "8" at 45.21,-67.91 h10
  text "2" at -72.9,-67.91 h10
  text "5" at -13.84,-67.91 h10
  text "7" at 25.53,-67.91 h10
  text "9" at 64.9,-67.91 h10
  text "6" at 5.84,-67.91 h10
  text "10" at 79.6,-29.53 h10
  text "17" at -37.53,67.91 h10
Top Assembly:
  lines w6: -110,-45 -110,-10 -92.5,-27.5 -110,-45 ; -90,-70 90,-70 90,70 -90,70 -90,-70
Top Component Outline:
  text "2" at -77.5,-126.67 h20
3D body: height 150, standoff 0, extent -120,-100 120,100

## QFN24_19-68_165X165 [mil] "QFN24_19-68_165X165"
pads (25):
  rect 34x12 smd: 1(77.76,-49.21) 2(77.76,-29.53) 3(77.76,-9.84) 4(77.76,9.84) 5(77.76,29.53) 6(77.76,49.21) 13(-77.76,49.21) 14(-77.76,29.53) 15(-77.76,9.84) 16(-77.76,-9.84) 17(-77.76,-29.53) 18(-77.76,-49.21)
  rect 12x34 smd: 7(49.21,77.76) 8(29.53,77.76) 9(9.84,77.76) 10(-9.84,77.76) 11(-29.53,77.76) 12(-49.21,77.76) 19(-49.21,-77.76) 20(-29.53,-77.76) 21(-9.84,-77.76) 22(9.84,-77.76) 23(29.53,-77.76) 24(49.21,-77.76)
  rect 107x107 smd: 25(0,0)
Top Overlay:
  lines w6: -90,-70 -90,-90 -70,-90 ; -90,70 -90,90 -70,90 ; 70,-85 75,-85 85,-75 85,-70 ; 70,90 90,90 90,70 ; 107.5,-50 122.5,-65 122.5,-35 107.5,-50
  text ".Designator" at 191,120 h30
  text "24" at 91,-90 h20
  text "19" at -44,-105 h20
  text "13" at -104,61.67 h20
  text "12" at -34,145 h20
  text "7" at 57.5,131.67 h20
  text "6" at 137.5,60 h20
Top Paste:
  dashed: -5.56,-5.56 -5.56,-49.56 -49.56,-49.56 -49.56,-5.56
  dashed: 49.56,-5.56 49.56,-49.56 5.56,-49.56 5.56,-5.56
  dashed: 49.56,49.56 49.56,5.56 5.56,5.56 5.56,49.56
  dashed: -5.56,49.56 -5.56,5.56 -49.56,5.56 -49.56,49.56
Top Courtyard:
  dashed: 100.76,100.76 100.76,-100.76 -100.76,-100.76 -100.76,100.76
Top 3D Body:
  region: 100,-100 100,100 -100,100 -100,-100
Mechanical 15:
  lines w6: 60,-80 80,-60 80,-65 65,-80 70,-80 80,-70 80,-75 75,-80 ; -80,-80 -80,80 80,80 80,-80 -80,-80 ; 80,-50 95,-65 95,-35 80,-50
  text "U110" at -48,10 h30
Mechanical 16:
  lines w6: 60,-80 80,-60 80,-65 65,-80 70,-80 80,-70 80,-75 75,-80 ; -80,-80 -80,80 80,80 80,-80 -80,-80 ; 80,-50 95,-65 95,-35 80,-50
  text "U110" at -48,10 h30
Mechanical 17:
  lines w6: 60,-80 80,-60 80,-65 65,-80 70,-80 80,-70 80,-75 75,-80 ; -80,-80 -80,80 80,80 80,-80 -80,-80 ; 80,-50 95,-65 95,-35 80,-50
  text "U110" at -48,10 h30
Mechanical 18:
  lines w6: 60,-80 80,-60 80,-65 65,-80 70,-80 80,-70 80,-75 75,-80 ; -80,-80 -80,80 80,80 80,-80 -80,-80 ; 80,-50 95,-65 95,-35 80,-50
  text "U110" at -48,10 h30
Mechanical 19:
  lines w6: 60,-80 80,-60 80,-65 65,-80 70,-80 80,-70 80,-75 75,-80 ; -80,-80 -80,80 80,80 80,-80 -80,-80 ; 80,-50 95,-65 95,-35 80,-50
  text "U110" at -48,10 h30
Mechanical47:
  text "17" at -85.76,-29.53 h10
  text "12" at -57.21,77.76 h10
  text "21" at -17.84,-77.76 h10
  text "16" at -85.76,-9.84 h10
  text "4" at 73.76,9.84 h10
  text "6" at 73.76,49.21 h10
  text "3" at 73.76,-9.84 h10
  text "15" at -85.76,9.84 h10
  text "9" at 5.84,77.76 h10
  text "25" at -8,0 h10
  text "11" at -37.53,77.76 h10
  text "13" at -85.76,49.21 h10
  text "7" at 45.21,77.76 h10
  text "8" at 25.53,77.76 h10
  text "20" at -37.53,-77.76 h10
  text "19" at -57.21,-77.76 h10
  text "10" at -17.84,77.76 h10
  text "2" at 73.76,-29.53 h10
  text "1" at 73.76,-49.21 h10
  text "22" at 1.84,-77.76 h10
  text "23" at 21.53,-77.76 h10
  text "18" at -85.76,-49.21 h10
  text "24" at 41.21,-77.76 h10
  text "5" at 73.76,29.53 h10
  text "14" at -85.76,29.53 h10
Top Assembly:
  lines w6: 60,-80 80,-60 80,-65 65,-80 70,-80 80,-70 80,-75 75,-80 ; -80,-80 -80,80 80,80 80,-80 -80,-80 ; 80,-50 95,-65 95,-35 80,-50
Top Component Outline:
  text "18" at -89,-40 h20
3D body: height 150, standoff 0, extent -100,-100 100,100